# EAGLE library part MUX_74LVC1G157GV (library Kirbi_ControlBoard)
MUX_74LVC1G157GV
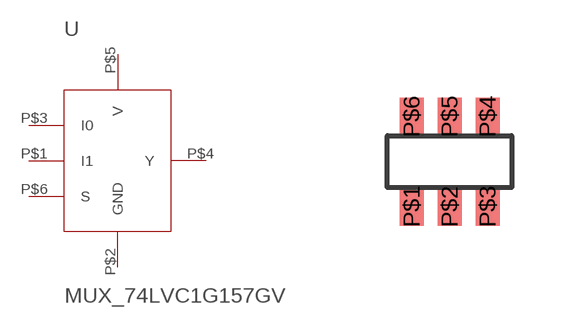
[diagram p6: symbol with the pads of MUX_74LVC1G157GV; footprint MUX_74LVC1G157GV]

Designator prefix -

## MUX_74LVC1G157GV  [MUX_74LVC1G157GV]
P$1  I1
P$2  GND
P$3  I0
P$4  Y
P$5  V
P$6  S

## Footprint MUX_74LVC1G157GV (pad centres in mm)
2:1 Multiplexer (74LVC1G157GV)
smd 0.6 x 0.95: P$1 -0.95,-1.125; P$2 0,-1.125; P$3 0.95,-1.125; P$4 0.95,1.125; P$5 0,1.125; P$6 -0.95,1.125